# Altium schematic symbol library 2020-04-12_18-07-32.SchLib: 2 symbols
Pins are listed as number, name and electrical type; pins without a type are passive.

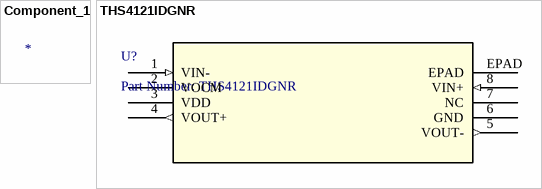
[diagram p0: symbols Component_1 to THS4121IDGNR]

## Component_1
designator *  (value not drawn)

## THS4121IDGNR
designator U?, comment Part Number: THS4121IDGNR
No Description Available; Vendor: Texas Instruments; Built_By: EMA_UL_Team; Manufacturer_Part_Number: THS4121IDGNR; Manufacturer: Texas Instruments; Copyright: Copyright (C) 2018 Accelerated Designs. All rights reserved; RefDes: RefDes; Type: Type; Value: Value
footprint DGN8_1P89X1P57
pins: 1 VIN- (in), 2 VOCM, 3 VDD (power), 4 VOUT+ (out), 5 VOUT- (out), 6 GND (power), 7 NC, 8 VIN+ (in), EPAD